# Altium schematic symbol library IN4007.SchLib: 1 symbol
Pins are listed as number, name and electrical type; pins without a type are passive.

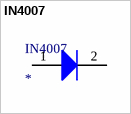
[diagram p0: symbol IN4007]

## IN4007
designator IN4007
footprint IN4007
pins: 1 A, 2 K